# Altium footprint library HANDS-FREE-PCBLIB-V2.0.PcbLib: 236 footprints (part 14 of 16)
Each footprint in its own frame and in the unit in brackets; x right, y up, seen from the top. Pads: shape width x height; smd on the part's side, far side on the other; paste and mask are expansions set on the pad; w line width, h text height; cw(c..) or ccw(c..) is an arc to the next point about the centre after c.
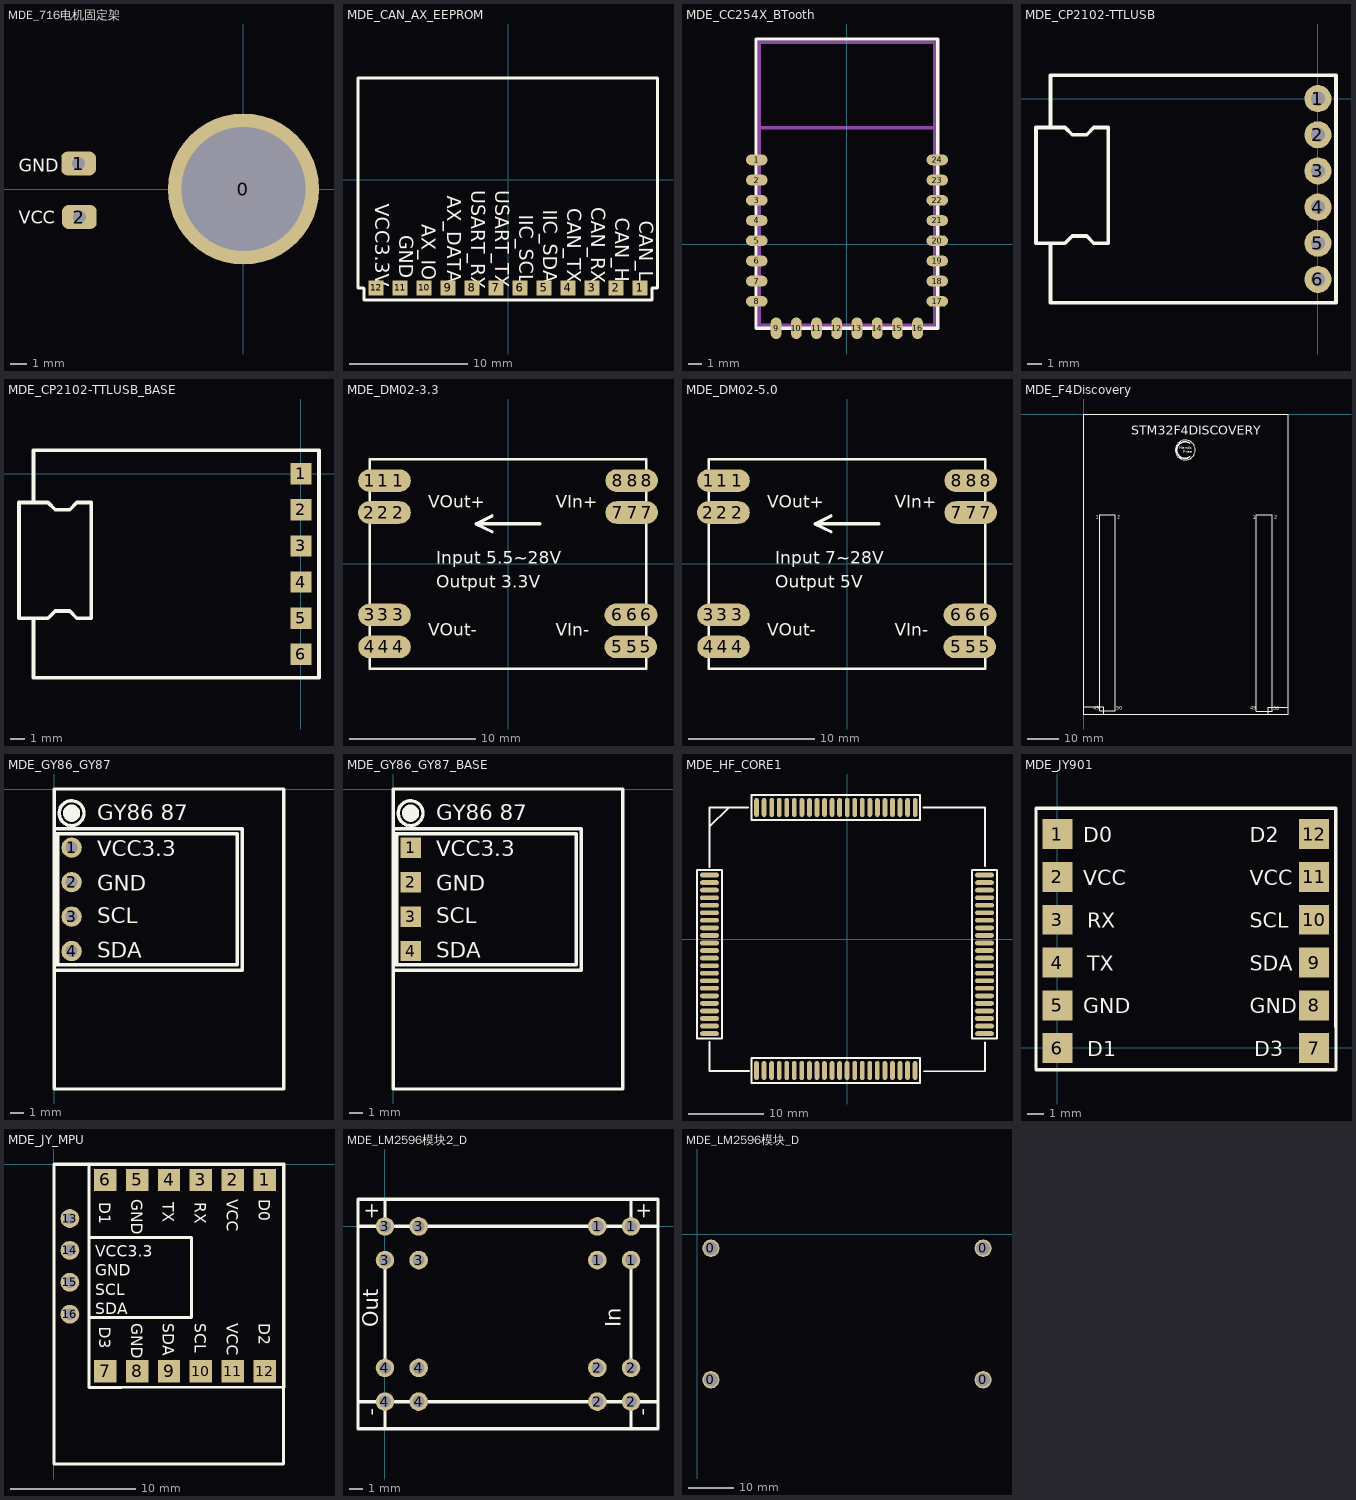
[diagram p13: the footprints below, top view; thin cyan lines are the x and y axes]

## MDE_716电机固定架 [mil]
pads (3):
  round 350 hole 287.4: 0(0,0)
  rrect50% 80x55 hole 30: 1(-382,59) 2(-380,-65)
Top Overlay:
  text "GND" at -520,40 h30
  text "VCC" at -520,-80 h30

## MDE_CAN_AX_EEPROM [mil]
pads (12):
  rect 50x50 smd: 1(440,-360) 2(360,-360) 3(280,-360) 4(200,-360) 5(120,-360) 6(40,-360) 7(-40,-360) 8(-120,-360) 9(-200,-360) 10(-280,-360) 11(-360,-360) 12(-440,-360)
Top Overlay:
  lines w10: -500,-361 -500,339 498,339 498,-361 481,-361 480,-360 480,-400 0,-400 -480,-400 -480,-362 -481,-361 -500,-361
  text "VCC3.3V" at -460,-79.07 h80
  text "GND" at -380,-185 h80
  text "AX_IO" at -305,-148.81 h80
  text "AX_DATA" at -220,-52.75 h80
  text "USART_RX" at -140,-34.16 h80
  text "USART_TX" at -60,-35.18 h80
  text "IIC_SCL" at 20,-117.03 h80
  text "IIC_SDA" at 100,-100 h80
  text "CAN_TX" at 180,-95.08 h80
  text "CAN_RX" at 260,-90.86 h80
  text "CAN_H" at 340,-126.01 h80
  text "CAN_L" at 420,-136.47 h80

## MDE_CC254X_BTooth [mm]
pads (24):
  oval 1.6x0.8 smd: 1(-6.7,6.25) 2(-6.7,4.75) 3(-6.7,3.25) 4(-6.7,1.75) 5(-6.7,0.25) 6(-6.7,-1.25) 7(-6.7,-2.75) 8(-6.7,-4.25) 17(6.7,-4.25) 18(6.7,-2.75) 19(6.7,-1.25) 20(6.7,0.25) 21(6.7,1.75) 22(6.7,3.25) 23(6.7,4.75) 24(6.7,6.25)
  oval 0.8x1.6 smd: 9(-5.262,-6.25) 10(-3.762,-6.25) 11(-2.262,-6.25) 12(-0.762,-6.25) 13(0.738,-6.25) 14(2.238,-6.25) 15(3.738,-6.25) 16(5.238,-6.25)
Top Overlay:
  lines w0.254: -6.756,-6.239 -6.756,15.224 6.731,15.224 6.731,-6.239 -6.756,-6.239
Mechanical 15:
  lines w0.254: -6.5,8.62 6.5,8.62 ; -6.5,-6.028 -6.5,14.97 6.5,14.97 6.5,-6.028 -6.5,-6.028

## MDE_CP2102-TTLUSB [mm]
pads (6):
  round 1.9 hole 1: 1(0,0) 2(0,-2.54) 3(0,-5.08) 4(0,-7.62) 5(0,-10.16) 6(0,-12.7)
Top Overlay:
  lines w0.254: -18.796,-10.16 -17.78,-10.16 -17.272,-9.652 -16.256,-9.652 -15.748,-10.16 -14.732,-10.16 -14.732,-6.096 -14.732,-2.032 -15.748,-2.032 -16.256,-2.54 -17.272,-2.54 -17.78,-2.032 -18.796,-2.032 ; -18.796,-10.16 -19.812,-10.16 -19.812,-2.032 -18.796,-2.032 ; -18.796,-10.16 -18.796,-14.351 1.27,-14.351 1.27,1.651 -18.796,1.651 -18.796,-2.032

## MDE_CP2102-TTLUSB_BASE [mil]
pads (6):
  rect 59x59 smd: 1(0,0) 2(0,-100) 3(0,-200) 4(0,-300) 5(0,-400) 6(0,-500)
Top Overlay:
  lines w10: -740,-400 -700,-400 -680,-380 -640,-380 -620,-400 -580,-400 -580,-240 -580,-80 -620,-80 -640,-100 -680,-100 -700,-80 -740,-80 ; -740,-400 -780,-400 -780,-80 -740,-80 ; -740,-400 -740,-565 50,-565 50,65 -740,65 -740,-80

## MDE_DM02-3.3 [mm] "U?"
pads (24):
  round 1.8 smd: 1(-11.014,6.613) 2(-11.033,4.073) 3(-11.014,-4.073) 4(-11.013,-6.613) 5(10.959,-6.613) 6(10.982,-4.073) 7(11.033,4.073) 8(11.033,6.613)
  rect 2.2x1.8 smd: 1(-9.923,6.613) 2(-9.923,4.073) 3(-9.922,-4.073) 4(-9.897,-6.613) 5(9.867,-6.613) 6(9.867,-4.073) 7(9.937,4.073) 8(9.937,6.613)
  oval 2x1.8 smd: 1(-8.732,6.613) 2(-8.732,4.073) 3(-8.731,-4.073) 4(-8.731,-6.613) 5(8.678,-6.613) 6(8.678,-4.073) 7(8.748,4.073) 8(8.748,6.613)
Top Layer:
  lines w0.4: 8.748,4.113 9.389,3.471
Top Overlay:
  lines w0.2: 10.983,8.327 -11.014,8.327 -11.014,-8.373 10.986,-8.373 10.986,8.327
  lines w0.254: -1.27,2.54 -2.54,3.175 ; -1.27,3.81 -2.54,3.175 ; 2.54,3.175 -2.54,3.175
  text "VOut-" at -6.35,-5.715 h1
  text "VOut+" at -6.35,4.445 h1
  text "VIn-" at 3.81,-5.715 h1
  text "VIn+" at 3.81,4.445 h1
  text "Input 5.5~28V" at -5.715,0 h1
  text "Output 3.3V" at -5.715,-1.905 h1

## MDE_DM02-5.0 [mm] "U?"
pads (24):
  round 1.8 smd: 1(-11.014,6.613) 2(-11.033,4.073) 3(-11.014,-4.073) 4(-11.013,-6.613) 5(10.959,-6.613) 6(10.982,-4.073) 7(11.033,4.073) 8(11.033,6.613)
  rect 2.2x1.8 smd: 1(-9.923,6.613) 2(-9.923,4.073) 3(-9.922,-4.073) 4(-9.897,-6.613) 5(9.867,-6.613) 6(9.867,-4.073) 7(9.937,4.073) 8(9.937,6.613)
  oval 2x1.8 smd: 1(-8.732,6.613) 2(-8.732,4.073) 3(-8.731,-4.073) 4(-8.731,-6.613) 5(8.678,-6.613) 6(8.678,-4.073) 7(8.748,4.073) 8(8.748,6.613)
Top Layer:
  lines w0.4: 8.748,4.113 9.389,3.471
Top Overlay:
  lines w0.2: 10.983,8.327 -11.014,8.327 -11.014,-8.373 10.986,-8.373 10.986,8.327
  lines w0.254: -1.27,2.54 -2.54,3.175 ; -1.27,3.81 -2.54,3.175 ; 2.54,3.175 -2.54,3.175
  text "VOut-" at -6.35,-5.715 h1
  text "VOut+" at -6.35,4.445 h1
  text "VIn-" at 3.81,-5.715 h1
  text "VIn+" at 3.81,4.445 h1
  text "Input 7~28V" at -5.715,0 h1
  text "Output 5V" at -5.715,-1.905 h1

## MDE_F4Discovery [mil]
Top Overlay:
  circle w10: c1290.81,-459 r126.19
  lines w7.87: 200,-3780 400,-3780 400,-1355 400,-1280 200,-1280 200,-1355 200,-3780 ; 2197,-3783 2197,-1358 2197,-1283 2397,-1283 2397,-1358 2397,-3783 2197,-3783
  lines w10: 0,-3730 249.21,-3730 ; 250,-3817.4 250,-3730 ; 2348,-3819.4 2348,-3732 2597.21,-3732 ; 0,-3820 0,0 2600,0 2600,-3820 0,-3820
  lines w20: 1347.87,-546.09 cw(c1287.7,-459.05) 1348.29,-372.3
  text "Hands" at 1212,-449 h35
  text "Free" at 1262,-499 h35
  text "1" at 150,-1352 h78.74
  text "2" at 422,-1352 h78.74
  text "49" at 2117,-3786 h78.74
  text "49" at 117,-3785 h78.74
  text "50" at 410,-3783 h78.74
  text "2" at 2422,-1353 h78.74
  text "1" at 2148,-1359 h78.74
  text "50" at 2409,-3789 h78.74
  text "STM32F4DISCOVERY" at 605,-301 h196.85

## MDE_GY86_GY87 [mil]
pads (4):
  round 59 hole 35.43: 1(50,-170) 2(50,-270) 3(50,-370) 4(50,-470)
Top Overlay:
  circle w30: c50,-70 r10
  circle w10: c50,-70 r36.06
  lines w10: 0,-525 545,-525 545,-115 0,-115 ; 0,-510 530,-510 530,-130 0,-130 ; 10,-510 10,-130 15,-130 ; 0,-870 665,-870 665,0 0,0 0,-870
  text "SDA" at 125,-490 h45
  text "VCC3.3" at 125,-195 h45
  text "GND" at 125,-295 h45
  text "SCL" at 125,-390 h45
  text "GY86 87" at 125,-90 h45

## MDE_GY86_GY87_BASE [mil]
pads (4):
  rect 59x59 smd: 1(50,-170) 2(50,-270) 3(50,-370) 4(50,-470)
Top Overlay:
  circle w10: c50,-70 r36.06
  circle w30: c50,-70 r10
  lines w10: 0,-525 545,-525 545,-115 0,-115 ; 0,-510 530,-510 530,-130 0,-130 ; 10,-510 10,-130 15,-130 ; 0,-870 0,0 665,0 665,-870 0,-870
  text "GY86 87" at 125,-90 h45
  text "SCL" at 125,-390 h45
  text "GND" at 125,-295 h45
  text "VCC3.3" at 125,-195 h45
  text "SDA" at 125,-490 h45

## MDE_HF_CORE1 [mil] "HANDS FREE核心板1代"
pads (88):
  oval 98.43x25 smd: 1(-717,333.49) 2(-717,294.12) 3(-717,254.75) 4(-717,215.38) 5(-717,176.01) 6(-717,136.64) 7(-717,97.27) 8(-717,57.9) 9(-717,18.53) 10(-717,-20.84) 11(-717,-60.21) 12(-717,-99.58) 13(-717,-138.95) 14(-717,-178.32) 15(-717,-217.69) 16(-717,-257.06) 17(-717,-296.43) 18(-717,-335.8) 19(-717,-375.17) 20(-717,-414.54) 21(-717,-453.91) 22(-717,-493.28) 45(717,-493.28) 46(717,-453.91) 47(717,-414.54) 48(717,-375.17) 49(717,-335.8) 50(717,-296.43) 51(717,-257.06) 52(717,-217.69) 53(717,-178.32) 54(717,-138.95) 55(717,-99.58) 56(717,-60.21) 57(717,-20.84) 58(717,18.53) 59(717,57.9) 60(717,97.27) 61(717,136.64) 62(717,176.01) 63(717,215.38) 64(717,254.75) 65(717,294.12) 66(717,333.49)
  oval 25x98.43 smd: 23(-471.77,-685.5) 24(-432.4,-685.5) 25(-393.03,-685.5) 26(-353.66,-685.5) 27(-314.29,-685.5) 28(-274.92,-685.5) 29(-235.55,-685.5) 30(-196.18,-685.5) 31(-156.81,-685.5) 32(-117.44,-685.5) 33(-78.07,-685.5) 34(-38.7,-685.5) 35(0.67,-685.5) 36(40.04,-685.5) 37(79.41,-685.5) 38(118.78,-685.5) 39(158.15,-685.5) 40(197.52,-685.5) 41(236.89,-685.5) 42(276.26,-685.5) 43(315.63,-685.5) 44(355,-685.5) 67(355.36,685.5) 68(315.99,685.5) 69(276.62,685.5) 70(237.25,685.5) 71(197.88,685.5) 72(158.51,685.5) 73(119.14,685.5) 74(79.77,685.5) 75(40.4,685.5) 76(1.03,685.5) 77(-38.34,685.5) 78(-77.71,685.5) 79(-117.08,685.5) 80(-156.45,685.5) 81(-195.82,685.5) 82(-235.19,685.5) 83(-274.56,685.5) 84(-313.93,685.5) 85(-353.3,685.5) 86(-392.67,685.5) 87(-432.04,685.5) 88(-471.41,685.5)
Top Overlay:
  lines w10: -754.5,-518.28 -652,-518.28 -652,359.72 -782,359.72 -782,-518.28 -717,-518.28 ; -717.87,-536.54 -717.87,-688.54 -509.87,-688.54 ; -716.87,375.46 -716.87,685.46 -514.87,685.46 ; -716.87,574.06 -716.87,585.46 -616.87,685.46 ; 380,-723 380,-620.5 -498,-620.5 -498,-750.5 380,-750.5 380,-685.5 ; 380.36,750.5 -497.64,750.5 -497.64,620.5 381.13,620.5 381.13,750.46 ; 399.13,685.46 720.13,685.46 720.13,379.46 ; 402.13,-689.54 720.13,-689.54 720.13,-539.54 ; 679.5,-518.28 782,-518.28 782,359.72 652,359.72 652,-518.28 717,-518.28

## MDE_JY901 [mil]
pads (12):
  rect 70x70 smd: 1(0.63,499.63) 2(0.63,399.63) 3(0.63,299.63) 4(0.63,199.63) 5(0.63,99.63) 6(0.63,-0.37) 7(600.63,-0.37) 8(600.63,99.63) 9(600.63,199.63) 10(600.63,299.63) 11(600.63,399.63) 12(600.63,499.63)
Top Overlay:
  lines w7.87: -49.37,49.63 -49.37,449.63 ; 650.63,449.63 650.63,49.63 651.63,49.63
  lines w8: -49.37,49.63 -49.37,-51.37 651.63,-51.37 651.63,49.63 ; -49.37,449.63 -49.37,560.63 650.63,560.63 650.63,449.63
  text "VCC" at 60.63,380.63 h35
  text "VCC" at 450.63,380.63 h35
  text "GND" at 60.63,80.63 h35
  text "GND" at 450.63,80.63 h35
  text "RX" at 70.63,280.63 h35
  text "TX" at 70.63,180.63 h35
  text "SDA" at 450.63,180.63 h35
  text "SCL" at 450.63,280.63 h35
  text "D0" at 60.63,480.63 h35
  text "D1" at 70.63,-19.37 h35
  text "D2" at 450.63,480.63 h35
  text "D3" at 460.63,-19.37 h35

## MDE_JY_MPU [mil]
pads (16):
  rect 70x70 smd: 1(661,-49) 2(561,-49) 3(461,-49) 4(361,-49) 5(261,-49) 6(161,-49) 7(161,-649) 8(261,-649) 9(361,-649) 10(461,-649) 11(561,-649) 12(661,-649)
  round 59 hole 35.43: 13(50,-170) 14(50,-270) 15(50,-370) 16(50,-470)
Top Overlay:
  lines w7.87: 211,-700 211,-699 611,-699 ; 211,1 611,1
  lines w8: 211,-700 110,-700 110,1 211,1 ; 611,-699 722,-699 722,1 611,1
  lines w10: 70,-940 0,-940 ; 110,-480 432,-480 432,-230 110,-230 ; 0,-940 0,0 720,0 720,-940 0,-940
  text "VCC" at 542,-109 h35
  text "VCC" at 542,-499 h35
  text "GND" at 242,-109 h35
  text "GND" at 242,-499 h35
  text "RX" at 442,-119 h35
  text "TX" at 342,-119 h35
  text "SDA" at 342,-499 h35
  text "SCL" at 442,-499 h35
  text "D0" at 642,-109 h35
  text "D1" at 142,-119 h35
  text "D2" at 642,-499 h35
  text "D3" at 142,-509 h35
  text "SCL" at 130,-410 h35
  text "GND" at 130,-350 h35
  text "VCC3.3" at 130,-290 h35
  text "SDA" at 130,-470 h35

## MDE_LM2596模块2_D [mil]
pads (16):
  round 55 hole 35.6: 1(630,-100) 1(630,0) 1(730,-100) 1(730,0) 2(630,-520) 2(630,-420) 2(730,-520) 2(730,-420) 3(0,-100) 3(0,0) 3(100,-100) 3(100,0) 4(0,-520) 4(0,-420) 4(100,-520) 4(100,-420)
Top Overlay:
  lines w10: -80,-520 0,-520 0,-600 ; -80,0 0,0 0,80 ; 0,-420 0,-100 ; 30,-520 730,-520 ; 30,0 730,0 ; 730,-600 730,-520 ; 730,-420 730,-100 ; 730,80 730,0 ; 810,-520 730,-520 ; 730,0 810,0 ; 810,0 810,80 -80,80 -80,-600 810,-600 810,0
  text "+" at 750,20 h45
  text "+" at -20,20 h45
  text "Out" at -20,-300 h45
  text "In" at 700,-300 h45
  text "-" at -20,-540 h45
  text "-" at 750,-540 h45

## MDE_LM2596模块_D [mil]
pads (4):
  round 150 hole 120: 0(120,-1260) 0(120,-120) 0(2480,-1260) 0(2480,-120)
Bottom Overlay:
  lines w10: 0,-1380 0,0 2600,0 2600,-1380 0,-1380